# EAGLE library part STN1110-DIL28 (library 1zac)
OBD Interpreter by STN
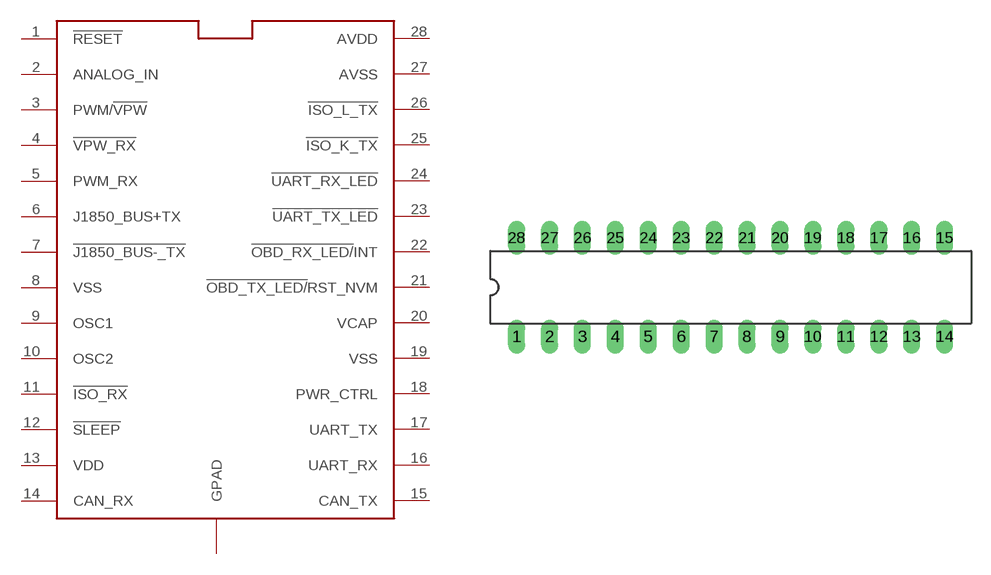
[diagram p15: symbol with the pads of STN1110-DIL28; footprint STN1110-DIL28]

Designator prefix -

## STN1110-DIL28  [STN1110-DIL28]
1  !RESET
2  ANALOG_IN
3  PWM/!VPW
4  !VPW_RX
5  PWM_RX
6  J1850_BUS+TX
7  !J1850_BUS-_TX
8  VSS
9  OSC1
10  OSC2
11  !ISO_RX
12  !SLEEP
13  VDD
14  CAN_RX
15  CAN_TX
16  UART_RX
17  UART_TX
18  PWR_CTRL
19  VSS
20  VCAP
21  !OBD_TX_LED/!RST_NVM
22  !OBD_RX_LED/!INT
23  !UART_TX_LED
24  !UART_RX_LED
25  !ISO_K_TX
26  !ISO_L_TX
27  AVSS
28  AVDD

## Footprint STN1110-DIL28 (pad centres in mm)
drill 0.813 long: 1 -15.24,-3.81; 2 -12.7,-3.81; 3 -10.16,-3.81; 4 -7.62,-3.81; 5 -5.08,-3.81; 6 -2.54,-3.81; 7 0,-3.81; 8 2.54,-3.81; 9 5.08,-3.81; 10 7.62,-3.81; 11 10.16,-3.81; 12 12.7,-3.81; 13 15.24,-3.81; 14 17.78,-3.81; 15 17.78,3.81; 16 15.24,3.81; 17 12.7,3.81; 18 10.16,3.81; 19 7.62,3.81; 20 5.08,3.81; 21 2.54,3.81; 22 0,3.81; 23 -2.54,3.81; 24 -5.08,3.81; 25 -7.62,3.81; 26 -10.16,3.81; 27 -12.7,3.81; 28 -15.24,3.81